# Altium integrated library GBJ2510.IntLib: 1 symbol
Pins are listed as number, name and electrical type; pins without a type are passive.

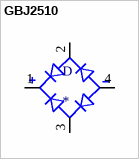
[diagram p0: symbol GBJ2510]

## GBJ2510
designator D
Bridge Rectifier Single Phase Standard 1kV Through Hole GBJ; MP: GBJ2510; MF: EIC Semiconductor; Value: *; SnapEDA_Link: https://www.snapeda.com/parts/GBJ2510/EIC%20Semiconductor/view-part/653283/?ref=snap; Availability: Unavailable; Price: None; Package: SIP-4 EIC Semiconductor
footprint DIOB_GBJ2510
pins: 1 POS, 2 AC1, 3 AC2, 4 NEG